# EAGLE library part GENERIC_DUAL_RJ11 (library FCI_RJ12)
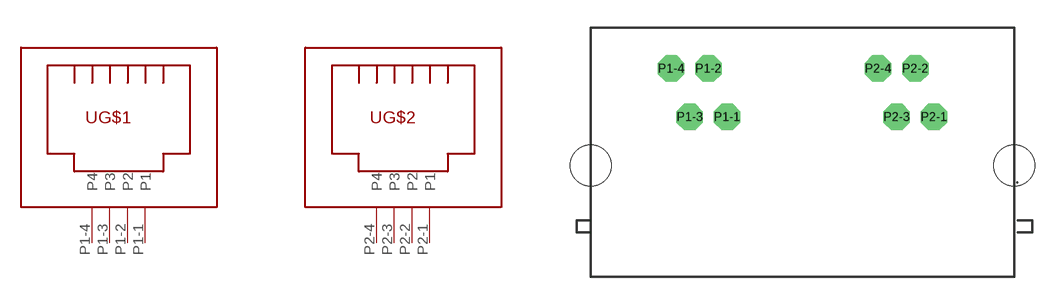
[diagram p2: symbol with the pads of DUAL_RJ11_RIGHT_ANGLE_PCB; footprint DUAL_RJ11_RIGHT_ANGLE_PCB]

Designator prefix -; gates G$1=RJ11_4POS G$2=RJ11_4POS

## GENERIC_DUAL_RJ11  [DUAL_RJ11_RIGHT_ANGLE_PCB]
P1-1  G$1:P1
P1-2  G$1:P2
P1-3  G$1:P3
P1-4  G$1:P4
P2-1  G$2:P1
P2-2  G$2:P2
P2-3  G$2:P3
P2-4  G$2:P4

## Footprint DUAL_RJ11_RIGHT_ANGLE_PCB (pad centres in mm)
drill 0.8 pad 1.422 octagon: P1-1 7.3,8.6; P1-2 6.3,11.2; P1-3 5.3,8.6; P1-4 4.3,11.2; P2-1 18.4,8.6; P2-2 17.4,11.2; P2-3 16.4,8.6; P2-4 15.4,11.2
hole 2.2 at 22.7,6
hole 2.2 at 0,6